# EAGLE library part XG4H-1431 (library parts)
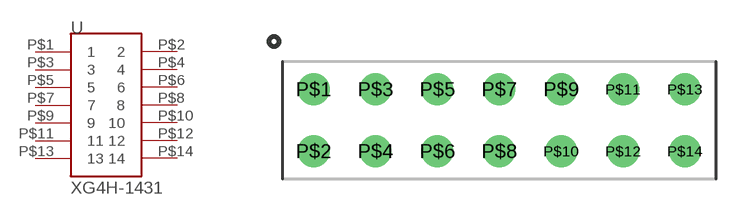
[diagram p1: symbol with the pads of XG4H-1431; footprint XG4H-1431]

Designator prefix -

## XG4H-1431  [XG4H-1431]
P$1  1  pas
P$2  2  pas
P$3  3  pas
P$4  4  pas
P$5  5  pas
P$6  6  pas
P$7  7  pas
P$8  8  pas
P$9  9  pas
P$10  10  pas
P$11  11  pas
P$12  12  pas
P$13  13  pas
P$14  14  pas

## Footprint XG4H-1431 (pad centres in mm)
drill 0.8: P$1 -7.62,1.27; P$2 -7.62,-1.27; P$3 -5.08,1.27; P$4 -5.08,-1.27; P$5 -2.54,1.27; P$6 -2.54,-1.27; P$7 0,1.27; P$8 0,-1.27; P$9 2.54,1.27; P$10 2.54,-1.27; P$11 5.08,1.27; P$12 5.08,-1.27; P$13 7.62,1.27; P$14 7.62,-1.27